# EAGLE library part TPS54627DDAR (library TPS54627DDAR)
4.5V to 18V Input, 6-A Synchronous Step-Down Converter Source: Datasheet <http://www.ti.com/lit/gpn/tps54627>
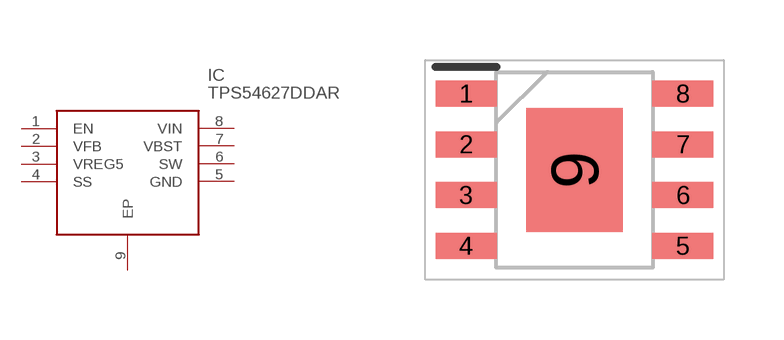
[diagram p0: symbol with the pads of SOIC127P600X170-9N; footprint SOIC127P600X170-9N]

Designator prefix IC

## TPS54627DDAR (DESCRIPTION: 4.5V to 18V Input, 6-A Synchronous Step-Down Converter; HEIGHT: 1.7mm; MANUFACTURER_NAME: Texas Instruments; MANUFACTURER_PART_NUMBER: TPS54627DDAR; MOUSER_PART_NUMBER: 595-TPS54627DDAR; MOUSER_PRICE-STOCK: https://www.mouser.com/Search/Refine.aspx?Keyword=595-TPS54627DDAR)  [SOIC127P600X170-9N]
1  EN
2  VFB
3  VREG5
4  SS
5  GND
6  SW
7  VBST
8  VIN
9  EP

## Footprint SOIC127P600X170-9N (pad centres in mm)
DDA (R-PDSO-G8)
smd 1.525 x 0.65: 1 -2.712,1.905; 2 -2.712,0.635; 3 -2.712,-0.635; 4 -2.712,-1.905; 5 2.712,-1.905; 6 2.712,-0.635; 7 2.712,0.635; 8 2.712,1.905
smd 2.4 x 3.1: 9 0,0